# Altium footprint library MODULE.PCBLIB: 102 footprints (part 5 of 7)
Each footprint in its own frame and in the unit in brackets; x right, y up, seen from the top. Pads: shape width x height; smd on the part's side, far side on the other; paste and mask are expansions set on the pad; w line width, h text height; cw(c..) or ccw(c..) is an arc to the next point about the centre after c.
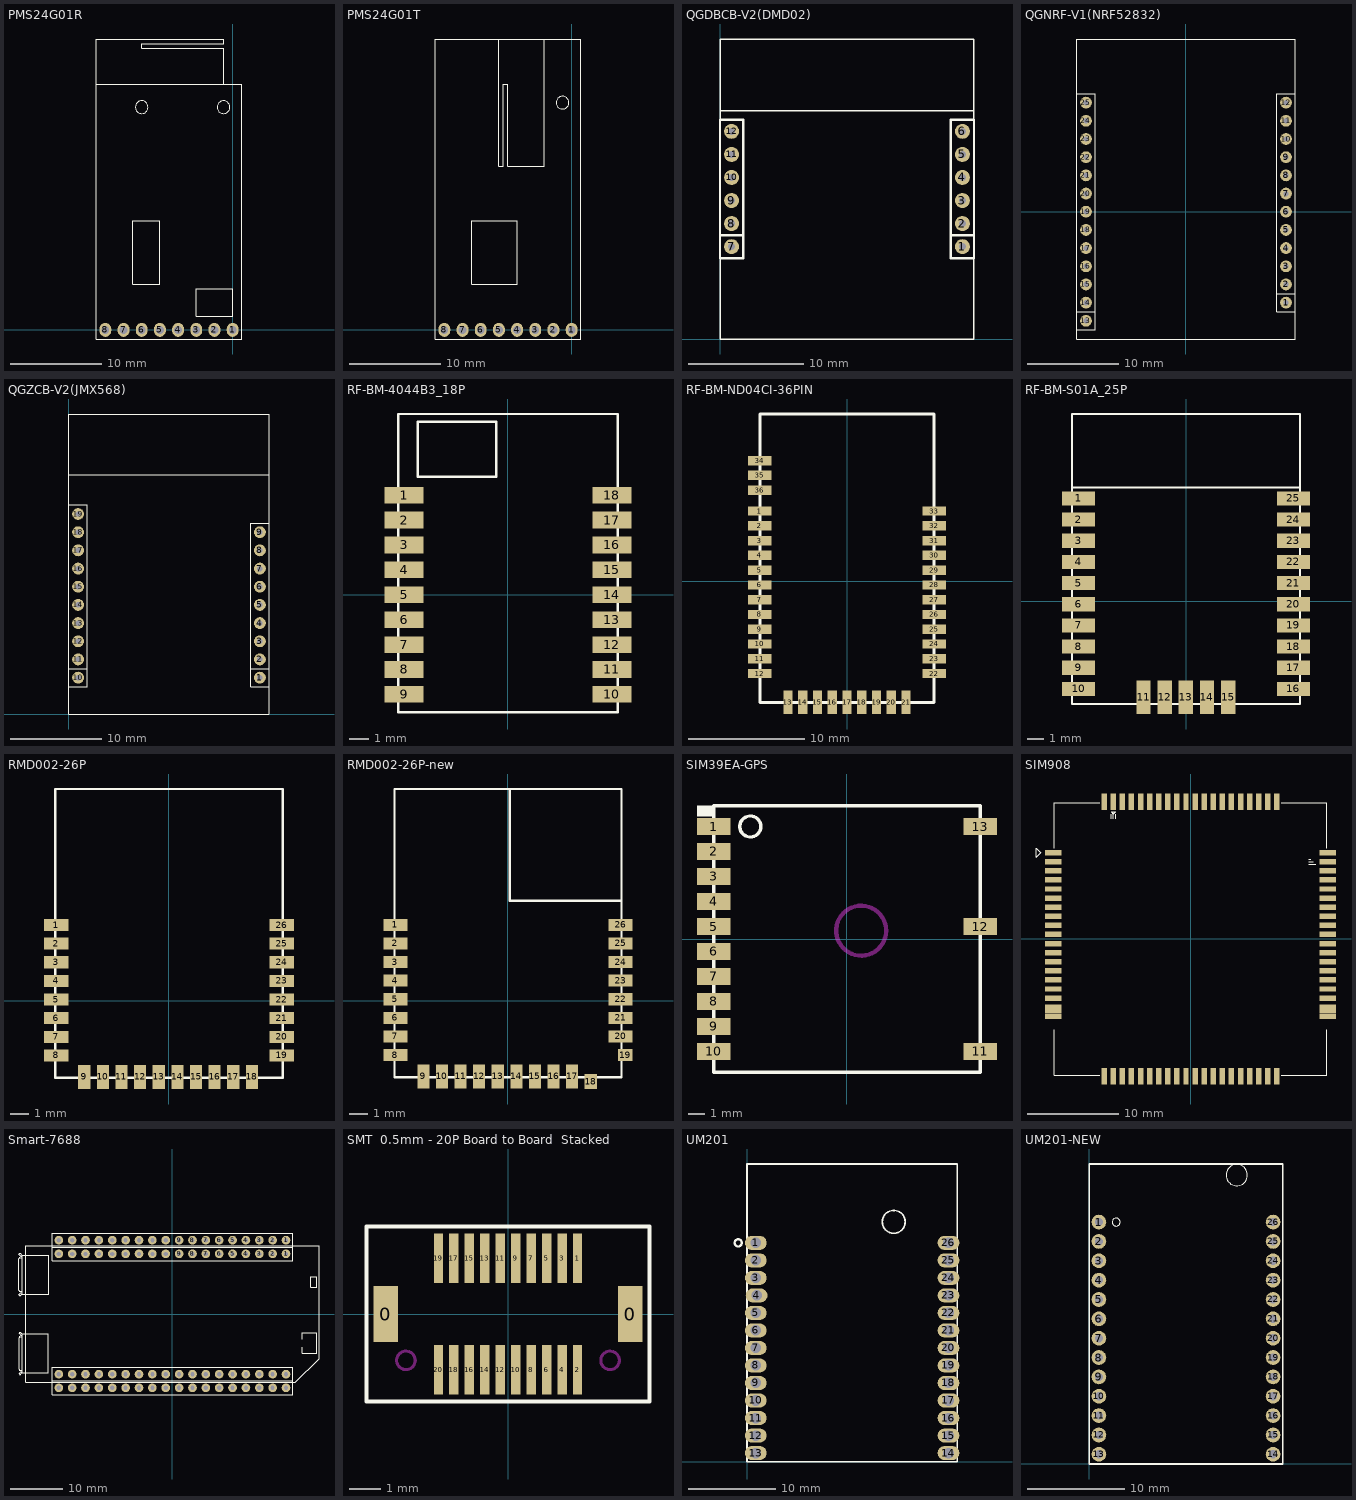
[diagram p4: the footprints below, top view; thin cyan lines are the x and y axes]

## PMS24G01R [mm]
pads (8):
  oval 1.3x1.524 hole 0.85 mask+0.102: 1(0,0) 2(-2,0) 3(-4,0) 4(-6,0) 5(-8,0) 6(-10,0) 7(-12,0) 8(-14,0)
TopOverlay:
  circle w0.127: c-10,24.5 r0.7
  circle w0.127: c-1,24.5 r0.7
  lines w0.127: -1,27 -1,31 -10,31 -10,31.5 -1,31.5 -1,32 -15,32 -15,27 ; -15,27 1,27 1,-1 -15,-1 -15,27 ; -11,5 -8,5 -8,12 -11,12 -11,5 ; -4,1.5 -4,4.5 0,4.5 0,1.5 -4,1.5

## PMS24G01T [mm]
pads (8):
  oval 1.3x1.524 hole 0.85 mask+0.102: 1(0,0) 2(-2,0) 3(-4,0) 4(-6,0) 5(-8,0) 6(-10,0) 7(-12,0) 8(-14,0)
TopOverlay:
  circle w0.127: c-1,25 r0.7
  lines w0.127: -8,32 -8,18 -7.5,18 -7.5,27 -7,27 -7,18 -3,18 -3,32 ; -15,-1 -15,32 1,32 1,-1 -15,-1 ; -11,5 -11,12 -6,12 -6,5 -11,5

## QGDBCB-V2(DMD02) [mm] "QGDBCB-V2(DMD02)"
pads (12):
  round 1.3 hole 0.6: 1(21,8) 2(21,10) 3(21,12) 4(21,14) 5(21,16) 6(21,18) 7(1,8) 8(1,10) 9(1,12) 10(1,14) 11(1,16) 12(1,18)
TopOverlay:
  lines w0.127: 0,19.8 22,19.8 ; 0,0 22,0 22,26 0,26 0,0
  lines w0.2: 0,9 1.975,9 ; 20,9 21.975,9 ; 0,7 0,19 2,19 2,7 0,7 ; 20,7 22,7 22,19 20,19 20,7

## QGNRF-V1(NRF52832) [mm] "QGNRF-V1(NRF52832)"
pads (25):
  round 1.3 hole 0.6: 1(11,-10) 2(11,-8) 3(11,-6) 4(11,-4) 5(11,-2) 6(11,0) 7(11,2) 8(11,4) 9(11,6) 10(11,8) 11(11,10) 12(11,12) 13(-11,-12) 14(-11,-10) 15(-11,-8) 16(-11,-6) 17(-11,-4) 18(-11,-2) 19(-11,0) 20(-11,2) 21(-11,4) 22(-11,6) 23(-11,8) 24(-11,10) 25(-11,12)
TopOverlay:
  lines w0.127: -12,-11 -10.025,-11 ; 10,-9 11.975,-9 ; -12,-14 -12,19 12,19 12,-14 -12,-14 ; -12,-13 -10,-13 -10,13 -12,13 -12,-13 ; 10,-11 10,13 12,13 12,-11 10,-11

## QGZCB-V2(JMX568) [mm] "QGZCB-V2(JMX568)"
pads (19):
  round 1.3 hole 0.6: 1(21,4) 2(21,6) 3(21,8) 4(21,10) 5(21,12) 6(21,14) 7(21,16) 8(21,18) 9(21,20) 10(1,4) 11(1,6) 12(1,8) 13(1,10) 14(1,12) 15(1,14) 16(1,16) 17(1,18) 18(1,20) 19(1,22)
TopOverlay:
  lines w0.127: 0,3 2,3 2,7 2,19 2,23 0,23 ; 0,5 1.975,5 ; 0,7 0,19 ; 0,26.325 22,26.325 ; 20.025,5 22,5 ; 22,3 20,3 20,7 20,21 22,21 ; 22,7 22,19 ; 0,0 22,0 22,33 0,33 0,0

## RF-BM-4044B3_18P [mm] "RF-BM-4044B3_18P"
pads (18):
  rect 2x0.85 smd mask+0.102: 1(-5.3,5.08) 2(-5.3,3.81) 3(-5.3,2.54) 4(-5.3,1.27) 5(-5.3,0) 6(-5.3,-1.27) 7(-5.3,-2.54) 8(-5.3,-3.81) 9(-5.3,-5.08) 10(5.3,-5.08) 11(5.3,-3.81) 12(5.3,-2.54) 13(5.3,-1.27) 14(5.3,0) 15(5.3,1.27) 16(5.3,2.54) 17(5.3,3.81) 18(5.3,5.08)
TopOverlay:
  lines w0.127: -5.6,-5.98 -5.6,9.22 5.6,9.22 5.6,-5.98 -5.6,-5.98 ; -4.6,6.02 -4.6,8.82 -0.6,8.82 -0.6,6.02 -4.6,6.02

## RF-BM-ND04CI-36PIN [mm] "RF-BM-ND04CI-36PIN"
height 4.5
pads (36):
  rect 2x0.8 smd: 1(-7.5,6.055) 2(-7.5,4.785) 3(-7.5,3.515) 4(-7.5,2.245) 5(-7.5,0.975) 6(-7.5,-0.295) 7(-7.5,-1.565) 8(-7.5,-2.835) 9(-7.5,-4.105) 10(-7.5,-5.375) 11(-7.5,-6.645) 12(-7.5,-7.915) 22(7.5,-7.915) 23(7.5,-6.645) 24(7.5,-5.375) 25(7.5,-4.105) 26(7.5,-2.835) 27(7.5,-1.565) 28(7.5,-0.295) 29(7.5,0.975) 30(7.5,2.245) 31(7.5,3.515) 32(7.5,4.785) 33(7.5,6.055) 34(-7.5,10.395) 35(-7.5,9.125) 36(-7.5,7.855)
  rect 0.8x2 smd: 13(-5.08,-10.395) 14(-3.81,-10.395) 15(-2.54,-10.395) 16(-1.27,-10.395) 17(0,-10.395) 18(1.27,-10.395) 19(2.54,-10.395) 20(3.81,-10.395) 21(5.08,-10.395)
TopOverlay:
  lines w0.254: -7.5,-10.395 -7.5,14.405 7.5,14.405 7.5,-10.395 -7.5,-10.395

## RF-BM-S01A_25P [mm] "RF-BM-S01A_25P"
pads (25):
  rect 2x0.85 smd mask+0.102: 1(-6.45,6.165) 2(-6.45,4.895) 3(-6.45,3.625) 4(-6.45,2.355) 5(-6.45,1.085) 6(-6.45,-0.185) 7(-6.45,-1.455) 8(-6.45,-2.725) 9(-6.45,-3.995) 10(-6.45,-5.265) 16(6.45,-5.265) 17(6.45,-3.995) 18(6.45,-2.725) 19(6.45,-1.455) 20(6.45,-0.185) 21(6.45,1.085) 22(6.45,2.355) 23(6.45,3.625) 24(6.45,4.895) 25(6.45,6.165)
  rect 0.85x2 smd mask+0.102: 11(-2.55,-5.765) 12(-1.28,-5.765) 13(-0.01,-5.765) 14(1.26,-5.765) 15(2.53,-5.765)
TopOverlay:
  lines w0.127: -6.85,6.835 6.85,6.835 ; -6.85,-6.165 -6.85,11.235 6.85,11.235 6.85,-6.165 -6.85,-6.165

## RMD002-26P [mm] "RMD002-26P"
pads (26):
  rect 1.3x0.65 smd: 1(-6.05,4.075) 2(-6.05,3.075) 3(-6.05,2.075) 4(-6.05,1.075) 5(-6.05,0.075) 6(-6.05,-0.925) 7(-6.05,-1.925) 8(-6.05,-2.925) 19(6.05,-2.925) 20(6.05,-1.925) 21(6.05,-0.925) 22(6.05,0.075) 23(6.05,1.075) 24(6.05,2.075) 25(6.05,3.075) 26(6.05,4.075)
  rect 0.65x1.3 smd: 9(-4.55,-4.075) 10(-3.55,-4.075) 11(-2.55,-4.075) 12(-1.55,-4.075) 13(-0.55,-4.075) 14(0.45,-4.075) 15(1.45,-4.075) 16(2.45,-4.075) 17(3.45,-4.075) 18(4.45,-4.075)
TopOverlay:
  lines w0.127: -6.1,-4.125 6.1,-4.125 6.1,11.375 -6.1,11.375 -6.1,-4.125

## RMD002-26P-new [mm] "RMD002-26P-new"
pads (26):
  rect 1.3x0.65 smd: 1(-6.05,4.075) 2(-6.05,3.075) 3(-6.05,2.075) 4(-6.05,1.075) 5(-6.05,0.075) 6(-6.05,-0.925) 7(-6.05,-1.925) 8(-6.05,-2.925) 20(6.05,-1.925) 21(6.05,-0.925) 22(6.05,0.075) 23(6.05,1.075) 24(6.05,2.075) 25(6.05,3.075) 26(6.05,4.075)
  rect 0.65x1.3 smd: 9(-4.55,-4.075) 10(-3.55,-4.075) 11(-2.55,-4.075) 12(-1.55,-4.075) 13(-0.55,-4.075) 14(0.45,-4.075) 15(1.45,-4.075) 16(2.45,-4.075) 17(3.45,-4.075)
  rect 0.65x0.8 smd: 18(4.45,-4.35)
  rect 0.8x0.65 smd: 19(6.3,-2.925)
TopOverlay:
  lines w0.127: 0.1,11.375 0.1,5.375 6.1,5.375 ; -6.1,-4.125 6.1,-4.125 ; -6.1,-4.125 6.1,-4.125 ; -6.1,-4.125 -6.1,11.375 6.1,11.375 6.1,-4.125

## SIM39EA-GPS [mm]
pads (13):
  rect 2x1 smd mask+0.102: 1(-8,6.75) 2(-8,5.25) 3(-8,3.75) 4(-8,2.25) 5(-8,0.75) 6(-8,-0.75) 7(-8,-2.25) 8(-8,-3.75) 9(-8,-5.25) 10(-8,-6.75) 11(8,-6.75) 12(8,0.75) 13(8,6.75)
TopOverlay:
  circle w0.2: c-5.8,6.75 r0.632
  rectangle: -9,7.35 -8,8
  lines w0.2: -8,-8 8,-8 8,8 -8,8 -8,-8
KeepOutLayer:
  circle w0.254: c0.85,0.5 r1.5

## SIM908 [mm]
pads (80):
  rect 1.8x0.6 smd mask+0.102: 1(-15.1,9.5) 2(-15.1,8.5) 3(-15.1,7.5) 4(-15.1,6.5) 5(-15.1,5.5) 6(-15.1,4.5) 7(-15.1,3.5) 8(-15.1,2.5) 9(-15.1,1.5) 10(-15.1,0.5) 11(-15.1,-0.5) 12(-15.1,-1.5) 13(-15.1,-2.5) 14(-15.1,-3.5) 15(-15.1,-4.5) 16(-15.1,-5.5) 17(-15.1,-6.5) 18(-15.1,-7.5) 19(-15.1,-8.5) 20(-15.1,-7.85) 41(15.1,-7.85) 42(15.1,-8.5) 43(15.1,-7.5) 44(15.1,-6.5) 45(15.1,-5.5) 46(15.1,-4.5) 47(15.1,-3.5) 48(15.1,-2.5) 49(15.1,-1.5) 50(15.1,-0.5) 51(15.1,0.5) 52(15.1,1.5) 53(15.1,2.5) 54(15.1,3.5) 55(15.1,4.5) 56(15.1,5.5) 57(15.1,6.5) 58(15.1,7.5) 59(15.1,8.5) 60(15.1,9.5)
  rect 0.6x1.8 smd mask+0.102: 21(-9.5,-15.1) 22(-8.5,-15.1) 23(-7.5,-15.1) 24(-6.5,-15.1) 25(-5.5,-15.1) 26(-4.5,-15.1) 27(-3.5,-15.1) 28(-2.5,-15.1) 29(-1.5,-15.1) 30(-0.5,-15.1) 31(0.5,-15.1) 32(1.5,-15.1) 33(2.5,-15.1) 34(3.5,-15.1) 35(4.5,-15.1) 36(5.5,-15.1) 37(6.5,-15.1) 38(7.5,-15.1) 39(8.5,-15.1) 40(9.5,-15.1) 61(9.5,15.1) 62(8.5,15.1) 63(7.5,15.1) 64(6.5,15.1) 65(5.5,15.1) 66(4.5,15.1) 67(3.5,15.1) 68(2.5,15.1) 69(1.5,15.1) 70(0.5,15.1) 71(-0.5,15.1) 72(-1.5,15.1) 73(-2.5,15.1) 74(-3.5,15.1) 75(-4.5,15.1) 76(-5.5,15.1) 77(-6.5,15.1) 78(-7.5,15.1) 79(-8.5,15.1) 80(-9.5,15.1)
TopOverlay:
  lines w0.1: -15,-10 -15,-15 -10,-15 ; -15,10 -15,15 -10,15 ; -8.75,13.25 -8.75,13.75 ; -8.5,13.25 -8.5,14 ; -8.25,13.25 -8.25,13.75 ; 10,-15 15,-15 15,-10 ; 10,15 15,15 15,10 ; 13,8.25 13.75,8.25 ; 13,8.5 13.5,8.5 ; 13,8.75 13.25,8.75 ; -17,10 -17,9 -16.5,9.5 -17,10 ; -17,10 -17,10 ; -8.5,14 -8.25,14 -8.5,13.75 -8.75,14 -8.5,14

## Smart-7688 [mm] "Smart-7688"
pads (72):
  round 1.65 hole 0.8 mask+0.05: 1(21.59,11.43) 1(21.59,14.03) 2(19.05,11.43) 2(19.05,14.03) 3(16.51,11.43) 3(16.51,14.03) 4(13.97,11.43) 4(13.97,14.03) 5(11.43,11.43) 5(11.43,14.03) 6(8.89,11.43) 6(8.89,14.03) 7(6.35,11.43) 7(6.35,14.03) 8(3.81,11.43) 8(3.81,14.03) 9(1.27,11.43) 9(1.27,14.03) 10(-1.27,11.43) 10(-1.27,14.03) 11(-3.81,11.43) 11(-3.81,14.03) 12(-6.35,11.43) 12(-6.35,14.03) 13(-8.89,11.43) 13(-8.89,14.03) 14(-11.43,11.43) 14(-11.43,14.03) 15(-13.97,11.43) 15(-13.97,14.03) 16(-16.51,11.43) 16(-16.51,14.03) 17(-19.05,11.43) 17(-19.05,14.03) 18(-21.59,11.43) 18(-21.59,14.03) 19(21.59,-14.028) 19(21.59,-11.43) 20(19.05,-14.028) 20(19.05,-11.43) 21(16.51,-14.028) 21(16.51,-11.43) 22(13.97,-14.028) 22(13.97,-11.43) 23(11.43,-14.028) 23(11.43,-11.43) 24(8.89,-14.028) 24(8.89,-11.43) 25(6.35,-14.028) 25(6.35,-11.43) 26(3.81,-14.028) 26(3.81,-11.43) 27(1.27,-14.028) 27(1.27,-11.43) 28(-1.27,-14.028) 28(-1.27,-11.43) 29(-3.81,-14.028) 29(-3.81,-11.43) 30(-6.35,-14.028) 30(-6.35,-11.43) 31(-8.89,-14.028) 31(-8.89,-11.43) 32(-11.43,-14.028) 32(-11.43,-11.43) 33(-13.97,-14.028) 33(-13.97,-11.43) 34(-16.51,-14.028) 34(-16.51,-11.43) 35(-19.05,-14.028) 35(-19.05,-11.43) 36(-21.59,-14.028) 36(-21.59,-11.43)
TopOverlay:
  lines w0.025: 26.254,5.126 27.454,5.126 27.454,7.126 26.254,7.126 26.254,5.126
  lines w0.1: -28.557,4.05 -28.782,4.05 -29.157,3.675 -28.982,3.5 -28.932,3.5 -28.632,3.8 -28.557,3.8 -28.557,11.2 -28.632,11.2 -28.932,11.5 -28.982,11.5 -29.157,11.325 -28.782,10.95 -28.557,10.95 ; -28.557,4.3 -28.982,4.3 cw(c-28.982,4.475) -29.157,4.475 -29.157,10.525 cw(c-28.982,10.525) -28.982,10.7 -28.557,10.7 ; -28.555,-10.95 -28.78,-10.95 -29.155,-11.325 -28.98,-11.5 -28.93,-11.5 -28.63,-11.2 -28.555,-11.2 ; -28.555,-10.7 -28.98,-10.7 cw(c-28.98,-10.525) -29.155,-10.525 -29.155,-4.475 cw(c-28.98,-4.475) -28.98,-4.3 -28.555,-4.3 ; -28.555,-4.05 -28.78,-4.05 -29.155,-3.675 -28.98,-3.5 -28.93,-3.5 -28.63,-3.8 -28.555,-3.8 ; -28.526,3.8 -23.526,3.8 -23.526,11.2 -28.526,11.2 ; -27.856,3.8 -27.856,11.2 ; -27.855,-11.2 -27.855,-3.8 ; 22.86,-15.328 -22.86,-15.328 -22.86,-12.728 22.86,-12.728 22.86,-10.131 ; 22.86,-15.326 22.86,-12.729 ; 22.86,-12.73 -22.86,-12.73 -22.86,-10.13 22.86,-10.13 ; 22.86,10.13 -22.86,10.13 -22.86,12.73 ; 22.86,10.132 22.86,12.729 ; 22.86,12.732 22.86,15.329 ; 22.86,15.33 -22.86,15.33 -22.86,12.73 ; -28.555,-11.2 -28.555,-3.8 ; -28.555,-11.2 -23.605,-11.2 -23.605,-3.8 -28.555,-3.8 ; -22.86,12.73 22.86,12.73 -22.86,12.73
  lines w0.102: -27.86,-13 23.36,-13 27.86,-8.5 27.86,13 -27.86,13 -27.86,-13
  lines w0.125: 24.635,-6.276 24.635,-7.47 27.435,-7.47 27.435,-3.57 24.635,-3.57 24.635,-4.759
Mechanical1:
  lines w0.1: -27.86,-6.7 -27.86,6.7

## SMT  0.5mm - 20P Board to Board  Stacked [mm] "SMT  0.5mm - 20P Board to Board  Stacked"
pads (22):
  rect 0.8x1.8 smd: 0(-3.95,0) 0(3.95,0)
  rect 0.3x1.6 smd: 1(2.25,1.8) 2(2.25,-1.8) 3(1.75,1.8) 4(1.75,-1.8) 5(1.25,1.8) 6(1.25,-1.8) 7(0.75,1.8) 8(0.75,-1.8) 9(0.25,1.8) 10(0.25,-1.8) 11(-0.25,1.8) 12(-0.25,-1.8) 13(-0.75,1.8) 14(-0.75,-1.8) 15(-1.25,1.8) 16(-1.25,-1.8) 17(-1.75,1.8) 18(-1.75,-1.8) 19(-2.25,1.8) 20(-2.25,-1.8)
TopOverlay:
  lines w0.127: -4.575,-2.825 4.575,-2.825 4.575,2.825 -4.575,2.825 -4.575,-2.825
KeepOutLayer:
  circle w0.1: c-3.3,-1.5 r0.3
  circle w0.1: c3.3,-1.5 r0.3

## UM201 [mm]
pads (26):
  oval 2.5x1.6 hole 1.2 mask+0.102: 1(1,25) 2(1,23) 3(1,21) 4(1.1,19) 5(1,17) 6(1,15) 7(1,13) 8(1,11) 9(1,9) 10(1,7) 11(1,5) 12(1,3) 13(1,1) 14(23,1) 15(23,3) 16(23,5) 17(23,7) 18(23,9) 19(23,11) 20(23,13) 21(23,15) 22(23,17) 23(23,19) 24(23,21) 25(23,23) 26(23,25)
TopOverlay:
  circle w0.2: c16.75,27.4 r1.309
  circle w0.254: c-1.012,25 r0.412
  lines w0.2: 0,0 0,34 24,34 24,0 0,0

## UM201-NEW [mm] "UM201-NEW"
pads (26):
  round 1.524 hole 0.85 mask+0.102: 1(1,25) 2(1,23) 3(1,21) 4(1,19) 5(1,17) 6(1,15) 7(1,13) 8(1,11) 9(1,9) 10(1,7) 11(1,5) 12(1,3) 13(1,1) 14(19,1) 15(19,3) 16(19,5) 17(19,7) 18(19,9) 19(19,11) 20(19,13) 21(19,15) 22(19,17) 23(19,19) 24(19,21) 25(19,23) 26(19,25)
TopOverlay:
  circle w0.1: c2.788,25 r0.412
  circle w0.1: c15.25,29.85 r1.1
  lines w0.2: 0,0 20,0 20,31 0,31 0,0